# Altium schematic symbol library RPSLib_Mechanical.SchLib: 1 symbol
Pins are listed as number, name and electrical type; pins without a type are passive.

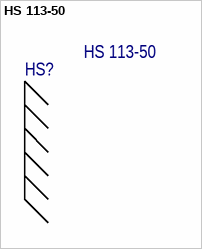
[diagram p0: symbol HS 113-50]

## HS 113-50
designator HS?  (mechanical)
Радиатор 50х85х24 мм, 5.8 дюйм*градус/Вт; Manufacturer: *; Manufacturer Part Number: *; Supplier 1: ChipDIp; Supplier Part Number 1: https://www.chipdip.ru/product/hs-113-50
footprint HS113-50 (Радиатор 50х85х24 мм, 5.8 дюйм*градус/Вт)